# Altium schematic symbol library Resistors.SchLib: 1 symbol
Pins are listed as number, name and electrical type; pins without a type are passive.

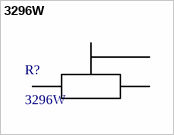
[diagram p0: symbol 3296W]

## 3296W
designator R?
https://www.chipdip.ru/product/3296w-1-100
footprint 3296W
pins: 1, 2, 3